# Altium footprint library simple port.PcbLib: 1 footprints
Each footprint in its own frame and in the unit in brackets; x right, y up, seen from the top. Pads: shape width x height; smd on the part's side, far side on the other; paste and mask are expansions set on the pad; w line width, h text height; cw(c..) or ccw(c..) is an arc to the next point about the centre after c.
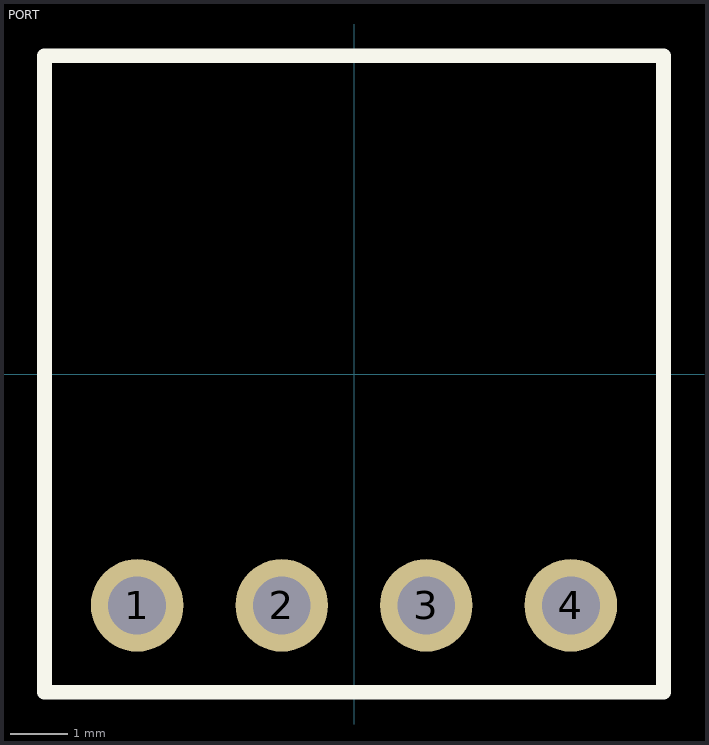
[diagram p0: the footprint, top view; thin cyan lines are the x and y axes]

## PORT [mm]
pads (4):
  round 1.6 hole 1: 1(-3.75,-4) 2(-1.25,-4) 3(1.25,-4) 4(3.75,-4)
Top Overlay:
  lines w0.254: -5.35,-5.5 -5.35,5.5 5.35,5.5 5.35,-5.5 -5.35,-5.5
3D body "simple port.STEP": height 5.9, standoff -3.4, extent -5.35,-5.5 5.35,5.5